# Altium footprint library TLV521.PcbLib: 5 footprints
Each footprint in its own frame and in the unit in brackets; x right, y up, seen from the top. Pads: shape width x height; smd on the part's side, far side on the other; paste and mask are expansions set on the pad; w line width, h text height; cw(c..) or ccw(c..) is an arc to the next point about the centre after c.
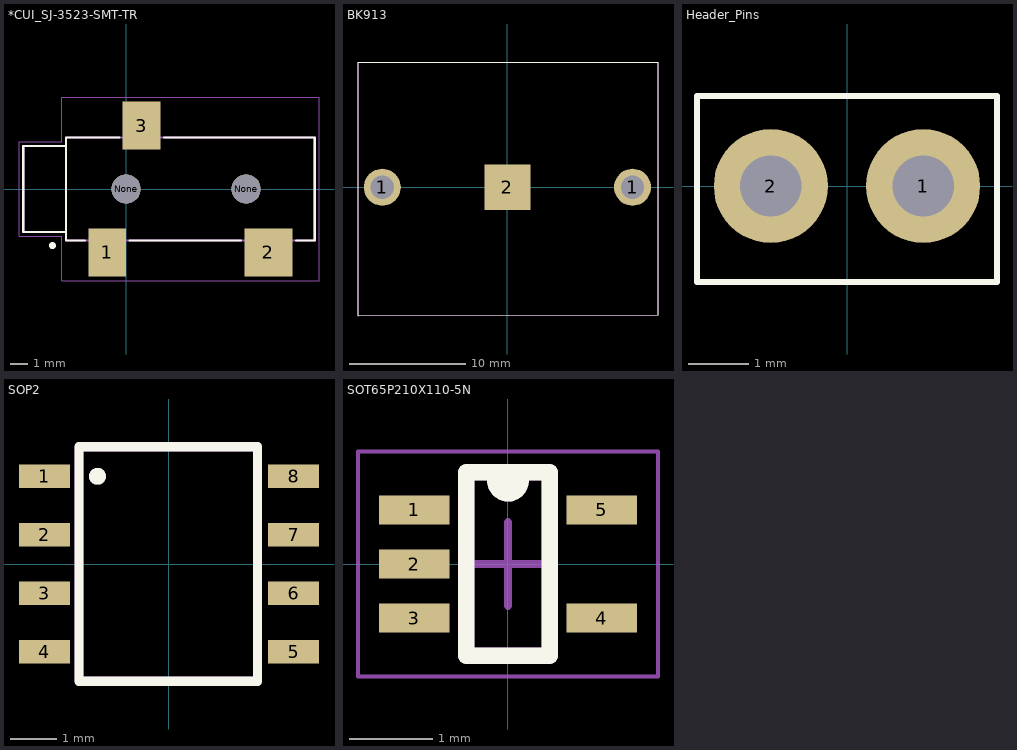
[diagram p0: the footprints below, top view; thin cyan lines are the x and y axes]

## *CUI_SJ-3523-SMT-TR [mm]
pads (5):
  rect 2.2x2.8 smd: 1(-1.1,-3.7) 3(0.9,3.7)
  rect 2.8x2.8 smd: 2(8.3,-3.7)
  round 1.7 hole 1.7 unplated: None(0,0) None(7,0)
Top Overlay:
  circle w0.2: c-4.3,-3.3 r0.1
  lines w0.127: -2.4,-3 -3.5,-3 -3.5,-2.5 ; -0.4,3 -3.5,3 -3.5,2.5 ; 0.2,-3 6.7,-3 ; 2.2,3 11,3 11,-3 9.9,-3 ; -3.5,-2.5 -3.5,2.5 ; -3.5,-2.5 -6,-2.5 -6,2.5 -3.5,2.5
Mechanical 4:
  circle w0.2: c-4.3,-3.3 r0.1
  circle w0.2: c-4.3,-3.3 r0.1
  lines w0.127: -6,-2.5 -6,2.5 ; -6,-2.5 -3.5,-2.5 -6,-2.5 ; -6,-2.5 -6,2.5 ; -6,2.5 -3.5,2.5 -6,2.5 ; -3.5,-3 -3.5,3 ; -3.5,-3 11,-3 ; -3.5,-3 -3.5,3 ; -3.5,-3 11,-3 ; -3.5,3 11,3 ; -3.5,3 11,3 ; 11,-3 11,3 ; 11,-3 11,3
Mechanical 16:
  lines w0.05: -6.25,-2.75 -6.25,2.75 -3.75,2.75 -3.75,5.35 11.25,5.35 11.25,-5.35 -3.75,-5.35 -3.75,-2.75 -6.25,-2.75
3D body "CUI_SJ-43514-SMT-TR.step": height 5.1, standoff -0.7, extent -6.2,-4.5 11,4.5

## BK913 [mm]
pads (3):
  round 3.2 hole 2: 1(-10.8,0) 1(10.8,0)
  rect 3.96x3.96 smd: 2(0,0)
Top Overlay:
  lines w0.1: -12.9,-11.101 -12.9,10.8 13,10.8 13,-11.01 -12.9,-11.101
Mechanical 13:
  lines w0.1: -12.9,-11.101 13,-11.01 13,10.8 -12.9,10.8 -12.9,-11.101
  text "'.Designator'" at -12.5,-10.4 h0.7
3D body "BK-913-TR--3DModel-STEP-56544.STEP": height 4.3, standoff -1.71, extent -10.9,-10.6 10.9,10

## Header_Pins [mm]
pads (2):
  round 1.9 hole 1.02: 1(1.27,0) 2(-1.27,0)
Top Overlay:
  lines w0.1: 2.3,-1.6 -2.5,-1.6 ; 2.3,1.5 -2.5,1.5 ; -2.5,-1.6 -2.5,1.5 ; -2.5,-1.6 2.5,-1.6 2.5,1.5 -2.5,1.5
Mechanical 13:
  lines w0.1: -2.5,-1.6 -2.5,1.5 2.5,1.5 2.5,-1.6 -2.5,-1.6
  text "'.Designator'" at -1.7,-1.5 h0.7

## SOP2 [mm]
pads (8):
  rect 1.1x0.51 smd: 1(-2.7,1.905) 2(-2.7,0.635) 3(-2.7,-0.635) 4(-2.7,-1.905) 5(2.7,-1.905) 6(2.7,-0.635) 7(2.7,0.635) 8(2.7,1.905)
Top Overlay:
  circle w0.2: c-1.55,1.9 r0.083
  lines w0.2: -1.6,-2.54 1.9,-2.54 -1.95,-2.54 -1.95,2.54 1.9,2.54 -1.6,2.54 ; 1.915,-2.54 1.915,2.54 1.915,-2.54
Mechanical 13:
  circle w0.2: c-1.55,1.9 r0.083
  lines w0.2: 1.9,-2.54 -1.95,-2.54 -1.95,2.54 1.9,2.54 ; 1.915,-2.54 1.915,2.54
  text "'.Designator'" at -2.25,-1.4 h0.7
3D body "R_8.step": height 1.76, standoff 0, extent -3.099,-2.502 3.099,2.502

## SOT65P210X110-5N [mm] "SOT23, 5-Leads, Body 2.00x2.10mm, Pitch 0.65mm, IPC Medium Density"
height 1.1
pads (5):
  rect 0.85x0.35 smd: 1(-1.125,0.65) 2(-1.125,0) 3(-1.125,-0.65) 4(1.125,-0.65) 5(1.125,0.65)
Top Overlay:
  lines w0.2: -0.5,-1.1 0.5,-1.1 ; -0.5,-1.1 -0.5,1.1 ; -0.5,-1.1 -0.5,1.1 ; -0.5,-1.1 0.5,-1.1 ; -0.5,1.1 0.5,1.1 ; -0.5,1.1 0.5,1.1 ; 0.5,-1.1 0.5,1.1 ; 0.5,-1.1 0.5,1.1
  lines w0.25: -0.125,1.01 ccw(c0,1) 0.125,1 cw(c0,1) -0.125,1.01
Mechanical 13:
  lines w0.2: -0.5,-1.1 0.5,-1.1 0.5,1.1 -0.5,1.1 -0.5,-1.1
  lines w0.25: -0.125,1.01 ccw(c0,1) 0.125,1
  text "'.Designator'" at -0.8,-0.3 h0.7
Mechanical 15:
  lines w0.05: -1.8,-1.35 1.8,-1.35 1.8,1.35 -1.8,1.35 -1.8,-1.35
  lines w0.1: -0.5,0 0.5,0 ; 0,-0.5 0,0.5
3D body "DCK5.step": height 1.09, standoff 0, extent -1.194,-1.08 1.194,1.08